# Altium footprint library PCB - CONNECTOR - MISC - DSUB 25RF.PcbLib: 1 footprints
Each footprint in its own frame and in the unit in brackets; x right, y up, seen from the top. Pads: shape width x height; smd on the part's side, far side on the other; paste and mask are expansions set on the pad; w line width, h text height; cw(c..) or ccw(c..) is an arc to the next point about the centre after c.
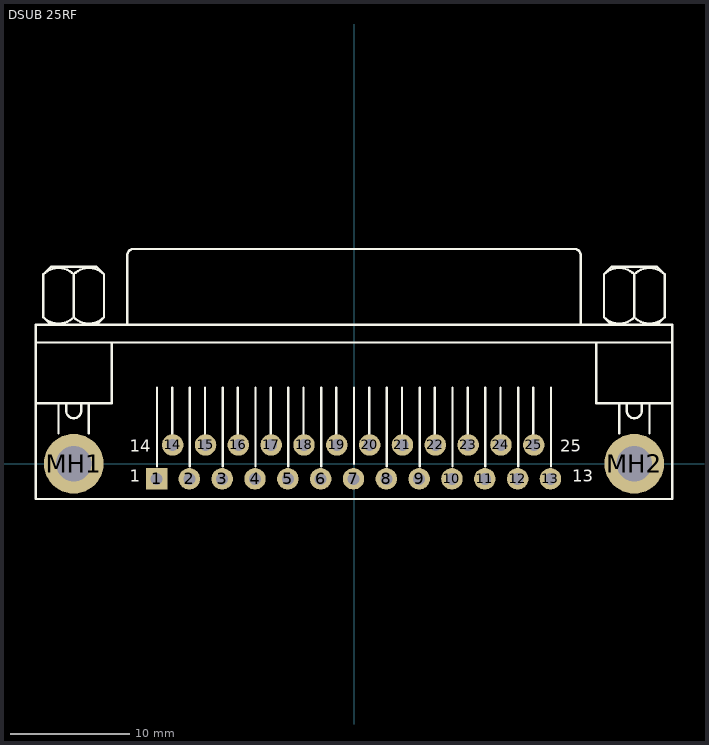
[diagram p0: the footprint, top view; thin cyan lines are the x and y axes]

## DSUB 25RF [mm] "CONN, DSUB MINIATURE, 25 WAY, RIGHT-ANGLE, FEMALE"
pads (27):
  rect 1.8x1.8 hole 1 mask+0.1: 1(-16.552,-1.27)
  round 1.8 hole 1 mask+0.1: 2(-13.801,-1.27) 3(-11.049,-1.27) 4(-8.297,-1.27) 5(-5.546,-1.27) 6(-2.794,-1.27) 7(-0.042,-1.27) 8(2.709,-1.27) 9(5.461,-1.27) 10(8.213,-1.27) 11(10.964,-1.27) 12(13.716,-1.27) 13(16.468,-1.27) 14(-15.198,1.57) 15(-12.446,1.57) 16(-9.694,1.57) 17(-6.943,1.57) 18(-4.191,1.57) 19(-1.439,1.57) 20(1.312,1.57) 21(4.064,1.57) 22(6.816,1.57) 23(9.567,1.57) 24(12.319,1.57) 25(15.071,1.57)
  round 5 hole 3: MH1(-23.495,0) MH2(23.495,0)
Top Overlay:
  lines w0.2: -26.67,5.08 -20.32,5.08 -20.32,10.16 ; -26.67,10.16 26.67,10.16 ; -26.037,12.274 ccw(c-24.765,13.547) -23.493,12.274 ; -26.037,15.877 cw(c-24.765,14.605) -23.493,15.877 ; -25.4,11.642 -26.035,12.277 -26.035,15.875 -25.4,16.51 -21.59,16.51 -20.955,15.875 -20.955,12.277 -21.59,11.642 ; -24.765,2.54 -24.765,5.08 ; -24.13,5.08 -24.13,4.445 ccw(c-23.495,4.445) -22.86,4.445 -22.86,5.08 ; -23.497,12.274 ccw(c-22.225,13.547) -20.953,12.274 ; -23.497,15.877 cw(c-22.225,14.605) -20.953,15.877 ; -23.495,12.277 -23.495,15.875 ; -22.225,2.54 -22.225,5.08 ; -19,11.655 -19,17.5 cw(c-18.5,17.5) -18.5,18 18.5,18 cw(c18.5,17.5) 19,17.5 19,11.642 ; -16.51,-0.212 -16.51,6.35 ; -15.24,2.328 -15.24,6.35 ; -13.758,-0.212 -13.758,6.35 ; -12.488,2.328 -12.488,6.35 ; -11.007,-0.212 -11.007,6.35 ; -9.737,2.328 -9.737,6.35 ; -8.255,-0.212 -8.255,6.35 ; -6.985,2.328 -6.985,6.35 ; -5.503,-0.212 -5.503,6.35 ; -4.233,2.328 -4.233,6.35 ; -2.752,-0.212 -2.752,6.35 ; -1.482,2.328 -1.482,6.35 ; 0,0 0,6.35 ; 1.27,2.328 1.27,6.35 ; 2.752,-0.212 2.752,6.35 ; 4.022,2.328 4.022,6.35 ; 5.503,-0.212 5.503,6.35 ; 6.773,2.328 6.773,6.35 ; 8.255,-0.212 8.255,6.35 ; 9.525,2.328 9.525,6.35 ; 11.007,-0.212 11.007,6.35 ; 12.277,2.328 12.277,6.35 ; 13.758,-0.212 13.758,6.35 ; 15.028,2.328 15.028,6.35 ; 16.51,-0.212 16.51,6.35 ; 20.32,10.16 20.32,5.08 26.67,5.08 ; 20.953,12.274 ccw(c22.225,13.547) 23.497,12.274 ; 20.953,15.877 cw(c22.225,14.605) 23.497,15.877 ; 21.59,11.642 20.955,12.277 20.955,15.875 21.59,16.51 25.4,16.51 26.035,15.875 26.035,12.277 25.4,11.642 ; 22.225,2.54 22.225,5.08 ; 22.86,5.08 22.86,4.445 ccw(c23.495,4.445) 24.13,4.445 24.13,5.08 ; 23.493,12.274 ccw(c24.765,13.547) 26.037,12.274 ; 23.493,15.877 cw(c24.765,14.605) 26.037,15.877 ; 23.495,12.277 23.495,15.875 ; 24.765,2.54 24.765,5.08 ; -26.67,-2.963 -26.67,11.642 26.67,11.642 26.67,-2.963 -26.67,-2.963
  text "13" at 18.288,-1.524 h1
  text "25" at 17.272,1.016 h1
  text "14" at -18.796,1.016 h1
  text "1" at -18.796,-1.524 h1
3D body "connector_a-DSUB25RF_a_kg-t1.stp": height 12.57, standoff -4.3, extent -26.62,-2.9 26.42,17.9